# EAGLE library part XMOS-LINK-FEMALE (library sjg-xmos)
female link between xmos devices
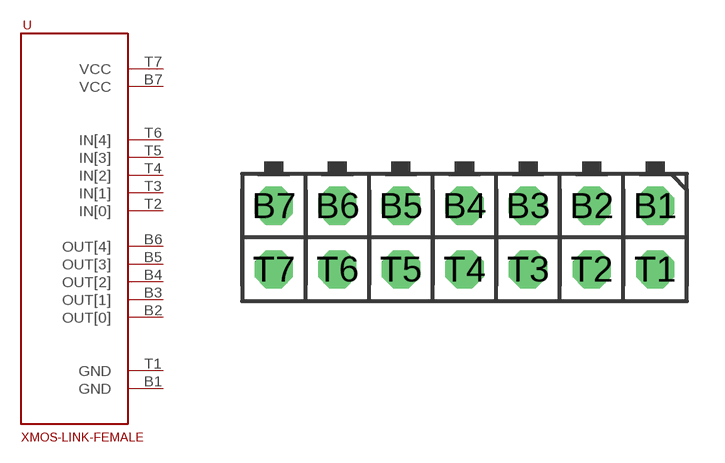
[diagram p3: symbol with the pads of 2X07; footprint 2X07]

Designator prefix -

## XMOS-LINK-FEMALEFEMALE  [2X07]
B1  GND
B2  OUT[0]
B3  OUT[1]
B4  OUT[2]
B5  OUT[3]
B6  OUT[4]
B7  VCC
T1  GND
T2  IN[0]
T3  IN[1]
T4  IN[2]
T5  IN[3]
T6  IN[4]
T7  VCC

## Footprint 2X07 (pad centres in mm)
PIN HEADER
drill 1.016 octagon: B1 7.62,1.27; B2 5.08,1.27; B3 2.54,1.27; B4 0,1.27; B5 -2.54,1.27; B6 -5.08,1.27; B7 -7.62,1.27; T1 7.62,-1.27; T2 5.08,-1.27; T3 2.54,-1.27; T4 0,-1.27; T5 -2.54,-1.27; T6 -5.08,-1.27; T7 -7.62,-1.27